# EAGLE library part SE2571U (library IC)
SiGe 2.4 GHz High Efficiency Wireless LAN/BT Front End
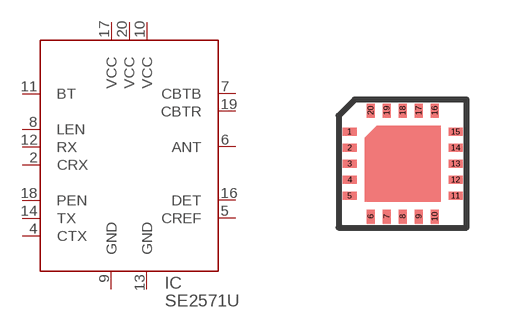
[diagram p166: symbol with the pads of QFN20-5X5P400; footprint QFN20-5X5P400]

Designator prefix IC

## SE2571U  [QFN20-5X5P400]
2  CRX
4  CTX
5  CREF
6  ANT
7  CBTB
8  LEN
9  GND
10  VCC
11  BT
12  RX
13  GND
14  TX
16  DET
17  VCC
18  PEN
19  CBTR
20  VCC

## Footprint QFN20-5X5P400 (pad centres in mm)
20-Pin QFN, 5x5 pins, 400uM pitch
smd 0.35 x 0.2: 1 -1.325,0.8; 2 -1.325,0.4; 3 -1.325,0; 4 -1.325,-0.4; 5 -1.325,-0.8; 11 1.325,-0.8; 12 1.325,-0.4; 13 1.325,0; 14 1.325,0.4; 15 1.325,0.8
smd 0.2 x 0.35: 6 -0.8,-1.325; 7 -0.4,-1.325; 8 0,-1.325; 9 0.4,-1.325; 10 0.8,-1.325; 16 0.8,1.325; 17 0.4,1.325; 18 0,1.325; 19 -0.4,1.325; 20 -0.8,1.325